# Altium footprint library car_PcbLib.PcbLib: 15 footprints
Each footprint in its own frame and in the unit in brackets; x right, y up, seen from the top. Pads: shape width x height; smd on the part's side, far side on the other; paste and mask are expansions set on the pad; w line width, h text height; cw(c..) or ccw(c..) is an arc to the next point about the centre after c.
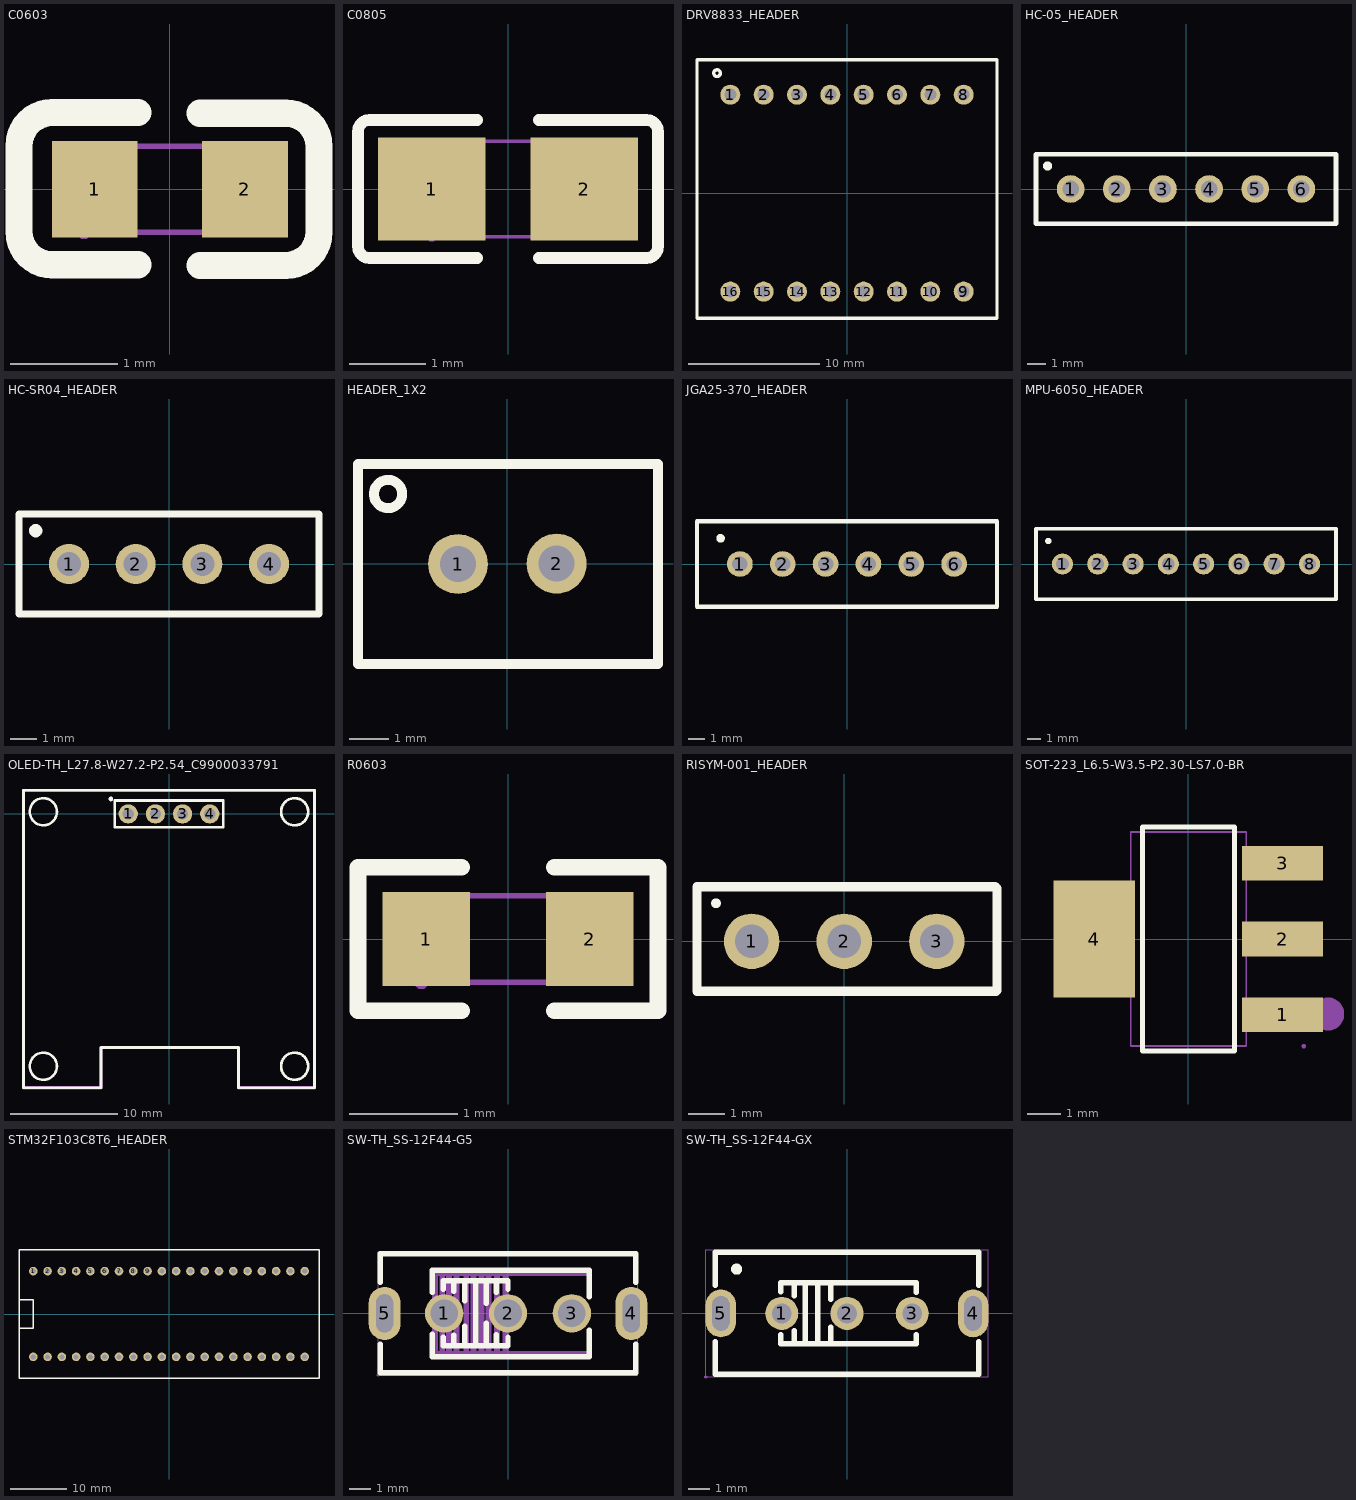
[diagram p0: the footprints below, top view; thin cyan lines are the x and y axes]

## C0603 [mm]
pads (2):
  rect 0.8x0.9 smd paste+0 mask+0.051: 1(-0.7,0) 2(0.7,0)
Top Overlay:
  lines w0.254: -0.296,-0.704 -1.096,-0.704 cw(c-1.096,-0.394) -1.406,-0.394 -1.405,0.406 cw(c-1.096,0.406) -1.096,0.715 -0.296,0.715 ; 0.28,-0.71 1.08,-0.71 ccw(c1.08,-0.4) 1.39,-0.4 1.39,0.4 ccw(c1.08,0.4) 1.08,0.71 0.28,0.71
Mechanical 15:
  region: -0.74,-0.4 -0.74,-0.375 -0.775,-0.34 -0.825,-0.34 -0.86,-0.375 -0.86,-0.4 -0.86,-0.425 -0.825,-0.46 -0.775,-0.46 -0.74,-0.425 -0.74,-0.4
  region: -0.8,-0.4 -0.8,0.4 -0.5,0.4 -0.5,-0.4
  region: 0.8,-0.4 0.8,0.4 0.5,0.4 0.5,-0.4
  lines w0.051: -0.8,-0.4 -0.8,0.4 0.8,0.4 0.8,-0.4 -0.8,-0.4

## C0805 [mm]
pads (2):
  rect 1.41x1.35 smd paste-100 mask+0.051: 1(-1,0) 2(1,0)
Top Overlay:
  lines w0.152: -0.401,-0.904 -1.811,-0.904 cw(c-1.811,-0.751) -1.964,-0.751 -1.964,0.751 cw(c-1.811,0.751) -1.811,0.904 -0.401,0.904 ; 0.401,-0.904 1.811,-0.904 ccw(c1.811,-0.751) 1.964,-0.751 1.964,0.751 ccw(c1.811,0.751) 1.811,0.904 0.401,0.904
Top Paste:
  region: -1.675,-0.62 -1.675,0.66 -1.625,0.71 -0.475,0.71 -0.425,0.66 -0.42,0.25 -0.87,0.25 -0.87,-0.2 -0.43,-0.2 -0.425,-0.62 -0.475,-0.67 -1.625,-0.67
  region: 0.475,-0.62 0.475,-0.2 0.92,-0.2 0.92,0.25 0.48,0.25 0.475,0.66 0.525,0.71 1.675,0.71 1.725,0.66 1.725,-0.62 1.675,-0.67 0.525,-0.67
Mechanical 15:
  region: -0.94,-0.625 -0.94,-0.6 -0.975,-0.565 -1.025,-0.565 -1.06,-0.6 -1.06,-0.625 -1.06,-0.65 -1.025,-0.685 -0.975,-0.685 -0.94,-0.65 -0.94,-0.625
  region: -1,-0.625 -1,0.625 -0.5,0.625 -0.5,-0.625
  region: 1,0.625 1,-0.625 0.5,-0.625 0.5,0.625
  lines w0.051: -1,-0.625 -1,0.625 1,0.625 1,-0.625 -1,-0.625

## DRV8833_HEADER [mil] "电机驱动"
pads (16):
  round 60 hole 36 paste+0 mask+4: 1(-350,295.3) 2(-250,295.3) 3(-150,295.3) 4(-50,295.3) 5(50,295.3) 6(150,295.3) 7(250,295.3) 8(350,295.3) 9(350,-295.3) 10(250,-295.3) 11(150,-295.3) 12(50,-295.3) 13(-50,-295.3) 14(-150,-295.3) 15(-250,-295.3) 16(-350,-295.3)
Top Overlay:
  circle w10: c-390,360 r10
  lines w10: -450,-375 450,-375 450,400 -450,400 -450,-375

## HC-05_HEADER [mil] "蓝牙"
pads (6):
  round 60 hole 36 paste+0 mask+4: 1(-250,0) 2(-150,0) 3(-50,0) 4(50,0) 5(150,0) 6(250,0)
Top Overlay:
  circle w10: c-300,50 r5
  lines w10: -325,-75 325,-75 325,75 -325,75 -325,-75

## HC-SR04_HEADER [mil] "超声波模块"
pads (4):
  round 60 hole 36 paste+0 mask+4: 1(-150,0) 2(-50,0) 3(50,0) 4(150,0)
Top Overlay:
  circle w10: c-200,50 r5
  lines w10: -225,-75 225,-75 225,75 -225,75 -225,-75

## HEADER_1X2 [mil] "HEADER"
pads (2):
  round 60 hole 36 paste+0 mask+4: 1(-49.33,-0.14) 2(49.33,0.14)
Top Overlay:
  circle w10: c-119.33,69.86 r14.14
  lines w10: -149.33,-100.14 -149.33,99.86 150.67,99.86 150.67,-100.14 -149.33,-100.14

## JGA25-370_HEADER [mil] "直流减速电机"
pads (6):
  round 60 hole 36 paste+0 mask+4: 1(-250,0) 2(-150,0) 3(-50,0) 4(50,0) 5(150,0) 6(250,0)
Top Overlay:
  circle w10: c-295,60 r5
  lines w10: -350,-100 350,-100 350,100 -350,100 -350,-100

## MPU-6050_HEADER [mil]
pads (8):
  round 60 hole 36 paste+0 mask+4: 1(-350,0) 2(-250,0) 3(-150,0) 4(-50,0) 5(50,0) 6(150,0) 7(250,0) 8(350,0)
Top Overlay:
  circle w10: c-390,65 r4
  lines w10: -425,-100 -425,-25 -425,25 -425,100 425,100 425,-25 425,-100 -425,-100

## OLED-TH_L27.8-W27.2-P2.54_C9900033791 [mm]
pads (4):
  round 1.8 hole 1.05 paste+0 mask+0.05: 1(-3.81,0) 2(-1.27,0) 3(1.27,0) 4(3.81,0)
Top Overlay:
  circle w0.254: c-5.436,1.397 r0.092
  circle w0.254: c-11.75,0.2 r1.27
  circle w0.254: c11.75,0.2 r1.27
  circle w0.254: c11.75,-23.6 r1.27
  circle w0.254: c-11.75,-23.6 r1.27
  lines w0.254: -13.599,-25.601 -6.35,-25.601 -6.35,-21.849 6.5,-21.849 6.5,-25.601 13.599,-25.601 13.599,2.2 -13.599,2.2 -13.599,-25.601 ; -5.08,-1.25 -5.08,1.25 5.08,1.25 5.08,-1.25 -5.08,-1.25
Mechanical 6:
  region: 6.5,-25.727 6.475,-25.727 6.428,-25.708 6.392,-25.672 6.373,-25.625 6.373,-25.6 6.373,-21.977 -6.223,-21.977 -6.223,-25.6 -6.223,-25.625 -6.242,-25.672 -6.278,-25.708 -6.325,-25.727 -6.35,-25.727 -13.6,-25.727 -13.625,-25.727 -13.672,-25.708 -13.708,-25.672 -13.727,-25.625 -13.727,-25.6 -13.727,2.2 -13.727,2.225 -13.708,2.272 -13.672,2.308 -13.625,2.327 -13.6,2.327 -13.575,2.327 -13.528,2.308 -13.492,2.272 -13.473,2.225 -13.473,2.2 -13.473,-25.473 -6.477,-25.473 -6.477,-21.85 -6.477,-21.825 -6.458,-21.778 -6.422,-21.742 -6.375,-21.723 -6.35,-21.723 6.5,-21.723 6.525,-21.723 6.572,-21.742 6.608,-21.778 6.627,-21.825 6.627,-21.85 6.627,-25.473 13.473,-25.473 13.473,2.2 13.473,2.225 13.492,2.272 13.528,2.308 13.575,2.327 13.6,2.327 13.625,2.327 13.672,2.308 13.708,2.272 13.727,2.225 13.727,2.2 13.727,-25.6 13.727,-25.625 13.708,-25.672 13.672,-25.708 13.625,-25.727 13.6,-25.727 6.5,-25.727
  region: 13.6,2.073 -13.6,2.073 -13.653,2.073 -13.727,2.147 -13.727,2.253 -13.653,2.327 -13.6,2.327 13.6,2.327 13.653,2.327 13.727,2.253 13.727,2.147 13.653,2.073 13.6,2.073
Mechanical 15:
  region: -13.539,-25.601 -13.539,-25.576 -13.574,-25.541 -13.624,-25.541 -13.659,-25.576 -13.659,-25.601 -13.659,-25.626 -13.624,-25.661 -13.574,-25.661 -13.539,-25.626 -13.539,-25.601
  region: 3.49,0.32 4.13,0.32 4.13,-0.32 3.49,-0.32
  region: 0.95,0.32 1.59,0.32 1.59,-0.32 0.95,-0.32
  region: -1.59,0.32 -0.95,0.32 -0.95,-0.32 -1.59,-0.32
  region: -4.13,0.32 -3.49,0.32 -3.49,-0.32 -4.13,-0.32
  lines w0.051: -13.599,-25.601 -6.35,-25.601 -6.35,-21.849 6.5,-21.849 6.5,-25.601 13.599,-25.601 13.599,2.2 -13.599,2.2 -13.599,-25.601

## R0603 [mil]
pads (2):
  rect 31.75x34.02 smd paste-3937.01 mask+2: 1(-29.66,0) 2(29.66,0)
Top Overlay:
  lines w6: -16.78,-26.01 -54.53,-26.01 -54.53,26.01 -16.78,26.01 ; 16.78,-26.01 54.53,-26.01 54.53,26.01 16.78,26.01
Top Paste:
  region: 47.05,17.72 15.55,17.72 13.58,15.75 13.58,6.77 28.15,6.77 28.15,-6.22 13.58,-6.22 13.58,-15.75 15.55,-17.72 47.05,-17.72 49.02,-15.75 49.02,15.75
  region: -13.98,15.75 -13.98,6.77 -28.94,6.77 -28.94,-6.22 -13.98,-6.22 -13.98,-15.75 -15.94,-17.72 -47.05,-17.72 -49.02,-15.75 -49.02,15.75 -47.05,17.72 -15.94,17.72
Mechanical 15:
  region: -29.14,-15.75 -29.14,-14.77 -30.52,-13.39 -32.48,-13.39 -33.86,-14.77 -33.86,-15.75 -33.86,-16.73 -32.48,-18.11 -30.52,-18.11 -29.14,-16.73 -29.14,-15.75
  region: -31.5,-15.75 -31.5,15.75 -19.68,15.75 -19.68,-15.75
  region: 31.5,-15.75 31.5,15.75 19.68,15.75 19.68,-15.75
  lines w2: -31.5,-15.75 -31.5,15.75 31.5,15.75 31.5,-15.75 -31.5,-15.75

## RISYM-001_HEADER [mil] "红外循迹"
pads (3):
  round 60 hole 36 paste+0 mask+4: 1(-100,0) 2(0,0) 3(100,0)
Top Overlay:
  lines w10: -139,41 -138,41 ; -159,-54 -159,59 163,59 165,57 165,-53 164,-54 -159,-54

## SOT-223_L6.5-W3.5-P2.30-LS7.0-BR [mm]
pads (4):
  rect 2.465x1.05 smd paste+0 mask+0.051: 1(2.857,-2.3) 2(2.857,0) 3(2.857,2.3)
  rect 2.465x3.54 smd paste+0 mask+0.051: 4(-2.857,0)
Top Overlay:
  lines w0.152: -1.396,-3.401 -1.396,3.401 1.396,3.401 1.396,-3.401 -1.396,-3.401
Mechanical 6:
  circle w0.5: c4.229,-2.277 r0.25
Mechanical 15:
  region: 3.56,-3.25 3.56,-3.225 3.525,-3.19 3.475,-3.19 3.44,-3.225 3.44,-3.25 3.44,-3.275 3.475,-3.31 3.525,-3.31 3.56,-3.275 3.56,-3.25
  region: 1.74,1.95 1.74,2.65 2.86,2.65 2.86,1.95
  region: 2.85,1.95 2.85,2.65 3.5,2.65 3.5,1.95
  region: 1.74,-0.35 1.74,0.35 2.86,0.35 2.86,-0.35
  region: 2.85,-0.35 2.85,0.35 3.5,0.35 3.5,-0.35
  region: 1.74,-2.65 1.74,-1.95 2.86,-1.95 2.86,-2.65
  region: 2.85,-2.65 2.85,-1.95 3.5,-1.95 3.5,-2.65
  region: -2.21,-1.5 -2.21,1.5 -1.74,1.5 -1.74,-1.5
  region: -3.5,-1.5 -3.5,1.5 -2.2,1.5 -2.2,-1.5
  lines w0.051: -1.75,-3.25 1.75,-3.25 1.75,3.25 -1.75,3.25 -1.75,-3.25

## STM32F103C8T6_HEADER [mil]
pads (40):
  round 60 hole 36 paste+0 mask+4: 1(-950,300) 2(-850,300) 3(-750,300) 4(-650,300) 5(-550,300) 6(-450,300) 7(-350,300) 8(-250,300) 9(-150,300) 10(-50,300) 11(50,300) 12(150,300) 13(250,300) 14(350,300) 15(450,300) 16(550,300) 17(650,300) 18(750,300) 19(850,300) 20(950,300) 21(950,-300) 22(850,-300) 23(750,-300) 24(650,-300) 25(550,-300) 26(450,-300) 27(350,-300) 28(250,-300) 29(150,-300) 30(50,-300) 31(-50,-300) 32(-150,-300) 33(-250,-300) 34(-350,-300) 35(-450,-300) 36(-550,-300) 37(-650,-300) 38(-750,-300) 39(-850,-300) 40(-950,-300)
Top Overlay:
  lines w10: -1050,-450 -1050,450 1050,450 1050,-450 -1050,-450 ; -1050,-100 -1050,100 -950,100 -950,-100 -1050,-100

## SW-TH_SS-12F44-G5 [mm]
pads (5):
  round 1.8 hole 1.3 paste+0 mask+0.051: 1(-3,0) 2(0,0) 3(3,0)
  oval 1.5x2.5 hole 0.8 slot 1.8 at 90 deg paste+0 mask+0.051: 4(5.8,0) 5(-5.8,0)
Top Overlay:
  lines w0.254: -6,-1.46 -6,-2.8 6,-2.8 6,-1.46 ; -6,1.46 -6,2.8 6,2.8 6,1.46 ; -3.556,-0.985 -3.556,-2.032 3.81,-2.032 3.81,-0.788 ; -3.556,0.985 -3.556,2.032 3.81,2.032 3.81,0.788 ; -3.048,-1.13 -3.048,-1.524 0,-1.524 0,-1.131 ; -3.048,1.13 -3.048,1.524 0,1.524 0,1.131 ; -2.549,-1.524 -2.549,-1.037 ; -2.549,1.037 -2.549,1.524 ; -2.041,-1.524 -2.041,-0.598 ; -2.041,0.598 -2.041,1.524 ; -1.524,-1.524 -1.524,1.524 ; -1.025,-1.524 -1.025,-0.474 ; -1.025,0.474 -1.025,1.524 ; -0.543,-1.524 -0.543,-0.992 ; -0.543,0.992 -0.543,1.524
Mechanical 6:
  region: -3.556,2.032 3.81,2.032 3.81,1.778 -3.556,1.778
  region: -3.556,2.032 -3.556,-2.032 -3.302,-2.032 -3.302,1.778
  region: -3.302,-1.778 3.81,-1.778 3.81,-2.032 -3.302,-2.032
  region: 0,1.778 -0.254,1.778 -0.254,-1.778 0,-1.778
  region: -0.395,1.787 -0.649,1.787 -0.649,-1.769 -0.395,-1.769
  region: -0.781,1.787 -1.035,1.787 -1.035,-1.769 -0.781,-1.769
  region: -1.124,1.778 -1.378,1.778 -1.378,-1.778 -1.124,-1.778
  region: -1.486,1.778 -1.74,1.778 -1.74,-1.778 -1.486,-1.778
  region: -1.834,1.778 -2.088,1.778 -2.088,-1.778 -1.834,-1.778
  region: -2.286,1.778 -2.54,1.778 -2.54,-1.778 -2.286,-1.778
  region: -2.648,1.778 -2.902,1.778 -2.902,-1.778 -2.648,-1.778
  region: -2.963,1.778 -3.217,1.778 -3.217,-1.778 -2.963,-1.778
Mechanical 15:
  region: -6.04,-2.9 -6.04,-2.875 -6.075,-2.84 -6.125,-2.84 -6.16,-2.875 -6.16,-2.9 -6.16,-2.925 -6.125,-2.96 -6.075,-2.96 -6.04,-2.925 -6.04,-2.9
  region: -5.575,0.6 -5.575,-0.6 -6.025,-0.6 -6.025,0.6
  region: 6.025,0.6 6.025,-0.6 5.575,-0.6 5.575,0.6
  region: -3.4,0.23 -2.6,0.23 -2.6,-0.23 -3.4,-0.23
  region: -0.4,0.23 0.4,0.23 0.4,-0.23 -0.4,-0.23
  region: 2.6,0.23 3.4,0.23 3.4,-0.23 2.6,-0.23
  lines w0.051: -6.1,-2.9 6.1,-2.9 6.1,2.9 -6.1,2.9 -6.1,-2.9

## SW-TH_SS-12F44-GX [mil]
pads (5):
  round 60 hole 36 paste+0 mask+2: 1(-118.11,0) 2(0,0) 3(118.11,0)
  oval 55.12x86.61 hole 31.5 slot 62.99 at 90 deg paste+0 mask+2: 4(228.35,0) 5(-228.35,0)
Top Overlay:
  circle w10: c-200,80 r5
  lines w10: -238.19,-51.06 -238.19,-110.24 238.19,-110.24 238.19,-51.06 ; -238.19,51.06 -238.19,110.24 238.19,110.24 238.19,51.06 ; -120,-39.05 -120,-55 125,-55 125,-38.49 ; -120,39.05 -120,55 125,55 125,38.49 ; -95.55,-55 -95.55,-31.91 ; -95.55,31.91 -95.55,55 ; -75.55,-55 -75.55,55 ; -53.4,-55 -53.4,55 ; -29.83,-55 -29.83,-25.22 ; -29.83,25.22 -29.83,55
Mechanical 15:
  region: -253.55,-115.24 -253.55,-114.26 -254.93,-112.88 -256.89,-112.88 -258.27,-114.26 -258.27,-115.24 -258.27,-116.22 -256.89,-117.6 -254.93,-117.6 -253.55,-116.22 -253.55,-115.24
  region: -104.05,0 -104.05,2.8 -106.19,7.97 -110.14,11.92 -115.31,14.06 -120.91,14.06 -126.08,11.92 -130.03,7.97 -132.17,2.8 -132.17,0 -132.17,-2.8 -130.03,-7.97 -126.08,-11.92 -120.91,-14.06 -115.31,-14.06 -110.14,-11.92 -106.19,-7.97 -104.05,-2.8 -104.05,0
  region: 14.06,0 14.06,2.8 11.92,7.97 7.97,11.92 2.8,14.06 -2.8,14.06 -7.97,11.92 -11.92,7.97 -14.06,2.8 -14.06,0 -14.06,-2.8 -11.92,-7.97 -7.97,-11.92 -2.8,-14.06 2.8,-14.06 7.97,-11.92 11.92,-7.97 14.06,-2.8 14.06,0
  region: 132.17,0 132.17,2.8 130.03,7.97 126.08,11.92 120.91,14.06 115.31,14.06 110.14,11.92 106.19,7.97 104.05,2.8 104.05,0 104.05,-2.8 106.19,-7.97 110.14,-11.92 115.31,-14.06 120.91,-14.06 126.08,-11.92 130.03,-7.97 132.17,-2.8 132.17,0
  region: 215.75,-15.75 215.75,15.75 240.94,15.75 240.94,-15.75
  region: -240.94,-15.75 -240.94,15.75 -215.75,15.75 -215.75,-15.75
  lines w2: -255.91,-115.24 255.91,-115.24 255.91,115.24 -255.91,115.24 -255.91,-115.24